# Altium footprint library CON 43650-0224.PcbLib: 1 footprints
Each footprint in its own frame and in the unit in brackets; x right, y up, seen from the top. Pads: shape width x height; smd on the part's side, far side on the other; paste and mask are expansions set on the pad; w line width, h text height; cw(c..) or ccw(c..) is an arc to the next point about the centre after c.
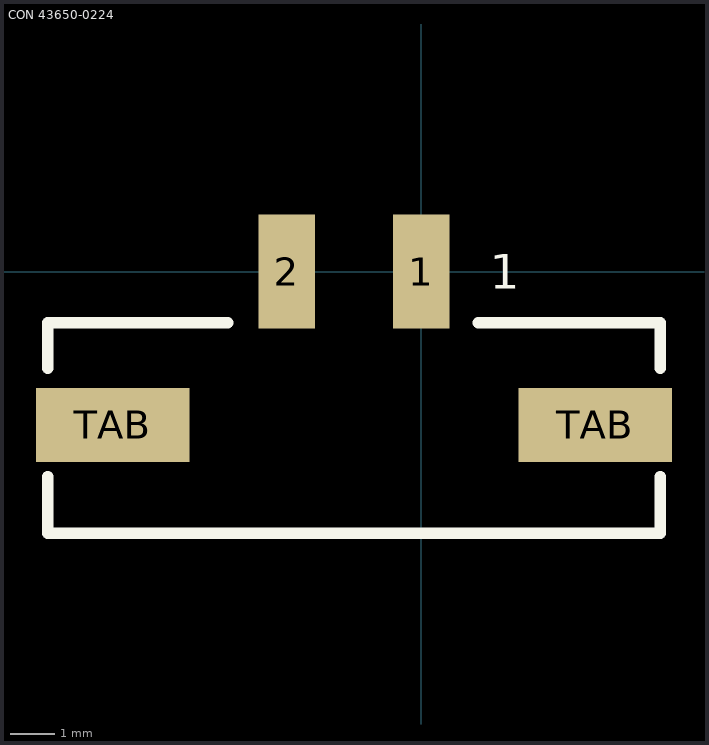
[diagram p0: the footprint, top view; thin cyan lines are the x and y axes]

## CON 43650-0224 [mm]
pads (4):
  rect 1.27x2.54 smd: 1(0,0) 2(-3,0)
  rect 3.43x1.65 smd: TAB(-6.885,-3.42) TAB(3.885,-3.42)
Top Overlay:
  lines w0.254: -8.334,-4.572 -8.334,-5.842 -1.222,-5.842 5.334,-5.842 5.334,-4.572 ; -8.334,-2.159 -8.334,-1.143 -4.318,-1.143 ; 1.27,-1.143 5.334,-1.143 5.334,-2.159
  text "1" at 1.524,-0.381 h0.76
3D body: height 10.27, standoff 0.02, extent -8.325,-5.855 5.325,0.615